# Altium integrated library Altium_WA-SMSI (rev22a) (2).IntLib: 179 symbols (part 1 of 3)
Pins are listed as number, name and electrical type; pins without a type are passive.

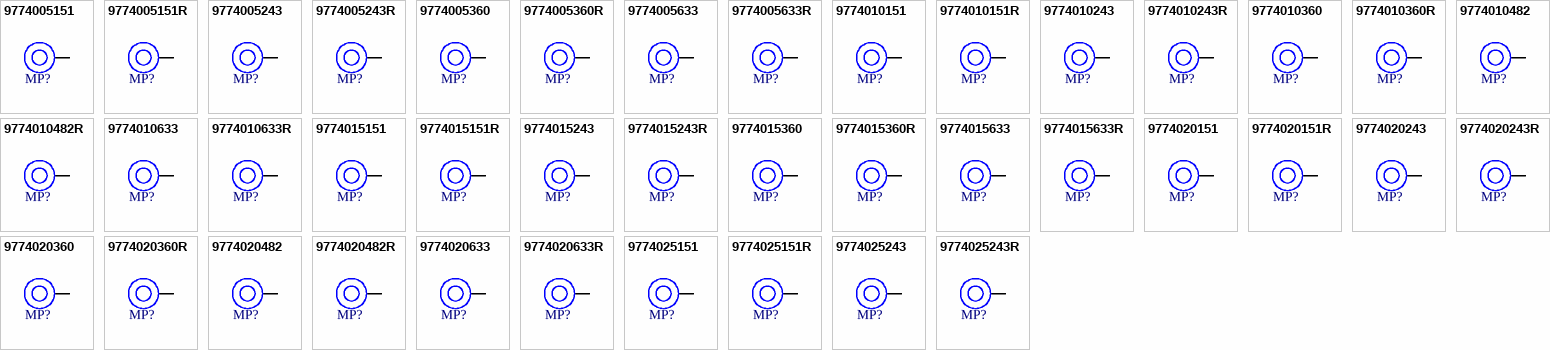
[diagram p0: symbols 9774005151 to 9774025243R]

## 9774005151
designator MP?, comment M2.5 x 0.5mm  (value not drawn)
WA-SMSI SMT Steel Spacer with internal Thread, OD 5.1mm, M2.5 x 0.5mm; Manufacturer Part Number: 9774005151; Manufacturer: Wurth Elektronik; Inside Diameter: 3.5mm; Surface: Tin; ComponentLink1Description: Website Link; ComponentLink1URL: https://www.we-online.com/redexpert/article/9774005151?ad; ComponentLink2Description: Datasheet Link; ComponentLink2URL: https://www.we-online.com/redexpert/spec/9774005151?ad; Category: SMT Spacers; Match Code: WA-SMSI; Mount: Surface Mount; Operating Temperature Max: 150°C; Operating Temperature Min: -55°C; Packaging: Bulk; Height: 0.5mm; Material: Steel; Outside Diameter: 5.1mm; Thread Size: M2.5
footprint 9774005151
pins: 1

## 9774005151R
designator MP?, comment M2.5 x 0.5mm  (value not drawn)
WA-SMSI SMT Steel Spacer with internal Thread, OD 5.1mm, M2.5 x 0.5mm; Manufacturer Part Number: 9774005151R; Manufacturer: Wurth Elektronik; Inside Diameter: 3.5mm; Surface: Tin; ComponentLink1Description: Website Link; ComponentLink1URL: https://www.we-online.com/redexpert/article/9774005151R?ad; ComponentLink2Description: Datasheet Link; ComponentLink2URL: https://www.we-online.com/redexpert/spec/9774005151R?ad; Category: SMT Spacers; Match Code: WA-SMSI; Mount: Surface Mount; Operating Temperature Max: 150°C; Operating Temperature Min: -55°C; Packaging: Tape and Reel; Height: 0.5mm; Material: Steel; Outside Diameter: 5.1mm; Thread Size: M2.5
footprint 9774005151
pins: 1

## 9774005243
designator MP?, comment M2 x 0.5mm  (value not drawn)
WA-SMSI SMT Steel Spacer with internal Thread, OD 4.35mm, M2 x 0.5mm; Manufacturer Part Number: 9774005243; Manufacturer: Wurth Elektronik; Inside Diameter: 2.8mm; Surface: Tin; ComponentLink1Description: Website Link; ComponentLink1URL: https://www.we-online.com/redexpert/article/9774005243?ad; ComponentLink2Description: Datasheet Link; ComponentLink2URL: https://www.we-online.com/redexpert/spec/9774005243?ad; Category: SMT Spacers; Match Code: WA-SMSI; Mount: Surface Mount; Operating Temperature Max: 150°C; Operating Temperature Min: -55°C; Packaging: Bulk; Height: 0.5mm; Material: Steel; Outside Diameter: 4.35mm; Thread Size: M2
footprint 9774005243
pins: 1

## 9774005243R
designator MP?, comment M2 x 0.5mm  (value not drawn)
WA-SMSI SMT Steel Spacer with internal Thread, OD 4.35mm, M2 x 0.5mm; Manufacturer Part Number: 9774005243R; Manufacturer: Wurth Elektronik; Inside Diameter: 2.8mm; Surface: Tin; ComponentLink1Description: Website Link; ComponentLink1URL: https://www.we-online.com/redexpert/article/9774005243R?ad; ComponentLink2Description: Datasheet Link; ComponentLink2URL: https://www.we-online.com/redexpert/spec/9774005243R?ad; Category: SMT Spacers; Match Code: WA-SMSI; Mount: Surface Mount; Operating Temperature Max: 150°C; Operating Temperature Min: -55°C; Packaging: Tape and Reel; Height: 0.5mm; Material: Steel; Outside Diameter: 4.35mm; Thread Size: M2
footprint 9774005243
pins: 1

## 9774005360
designator MP?, comment M3 x 0.5mm  (value not drawn)
WA-SMSI SMT Steel Spacer with internal Thread, OD 6mm, M3 x 0.5mm; Manufacturer Part Number: 9774005360; Manufacturer: Wurth Elektronik; Inside Diameter: 4.2mm; Surface: Tin; ComponentLink1Description: Website Link; ComponentLink1URL: https://www.we-online.com/redexpert/article/9774005360?ad; ComponentLink2Description: Datasheet Link; ComponentLink2URL: https://www.we-online.com/redexpert/spec/9774005360?ad; Category: SMT Spacers; Match Code: WA-SMSI; Mount: Surface Mount; Operating Temperature Max: 150°C; Operating Temperature Min: -55°C; Packaging: Bulk; Height: 0.5mm; Material: Steel; Outside Diameter: 6mm; Thread Size: M3
footprint 9774005360
pins: 1

## 9774005360R
designator MP?, comment M3 x 0.5mm  (value not drawn)
WA-SMSI SMT Steel Spacer with internal Thread, OD 6mm, M3 x 0.5mm; Manufacturer Part Number: 9774005360R; Manufacturer: Wurth Elektronik; Inside Diameter: 4.2mm; Surface: Tin; ComponentLink1Description: Website Link; ComponentLink1URL: https://www.we-online.com/redexpert/article/9774005360R?ad; ComponentLink2Description: Datasheet Link; ComponentLink2URL: https://www.we-online.com/redexpert/spec/9774005360R?ad; Category: SMT Spacers; Match Code: WA-SMSI; Mount: Surface Mount; Operating Temperature Max: 150°C; Operating Temperature Min: -55°C; Packaging: Tape and Reel; Height: 0.5mm; Material: Steel; Outside Diameter: 6mm; Thread Size: M3
footprint 9774005360
pins: 1

## 9774005633
designator MP?, comment M1.6 x 0.5mm  (value not drawn)
WA-SMSI SMT Steel Spacer with internal Thread, OD 3.3mm, M1.6 x 0.5mm; Manufacturer Part Number: 9774005633; Manufacturer: Wurth Elektronik; Inside Diameter: 1.9mm; Surface: Tin; ComponentLink1Description: Website Link; ComponentLink1URL: https://www.we-online.com/redexpert/article/9774005633?ad; ComponentLink2Description: Datasheet Link; ComponentLink2URL: https://www.we-online.com/redexpert/spec/9774005633?ad; Category: SMT Spacers; Match Code: WA-SMSI; Mount: Surface Mount; Operating Temperature Max: 150°C; Operating Temperature Min: -55°C; Packaging: Bulk; Height: 0.5mm; Material: Steel; Outside Diameter: 3.3mm; Thread Size: M1.6
footprint 9774005633
pins: 1

## 9774005633R
designator MP?, comment M1.6 x 0.5mm  (value not drawn)
WA-SMSI SMT Steel Spacer with internal Thread, OD 3.3mm, M1.6 x 0.5mm; Manufacturer Part Number: 9774005633R; Manufacturer: Wurth Elektronik; Inside Diameter: 1.9mm; Surface: Tin; ComponentLink1Description: Website Link; ComponentLink1URL: https://www.we-online.com/redexpert/article/9774005633R?ad; ComponentLink2Description: Datasheet Link; ComponentLink2URL: https://www.we-online.com/redexpert/spec/9774005633R?ad; Category: SMT Spacers; Match Code: WA-SMSI; Mount: Surface Mount; Operating Temperature Max: 150°C; Operating Temperature Min: -55°C; Packaging: Tape and Reel; Height: 0.5mm; Material: Steel; Outside Diameter: 3.3mm; Thread Size: M1.6
footprint 9774005633
pins: 1

## 9774010151
designator MP?, comment M2.5 x 1mm  (value not drawn)
WA-SMSI SMT Steel Spacer with internal Thread, OD 5.1mm, M2.5 x 1mm; Manufacturer Part Number: 9774010151; Manufacturer: Wurth Elektronik; Inside Diameter: 3.5mm; Surface: Tin; ComponentLink1Description: Website Link; ComponentLink1URL: https://www.we-online.com/redexpert/article/9774010151?ad; ComponentLink2Description: Datasheet Link; ComponentLink2URL: https://www.we-online.com/redexpert/spec/9774010151?ad; Category: SMT Spacers; Match Code: WA-SMSI; Mount: Surface Mount; Operating Temperature Max: 150°C; Operating Temperature Min: -55°C; Packaging: Bulk; Height: 1mm; Material: Steel; Outside Diameter: 5.1mm; Thread Size: M2.5
footprint 9774010151
pins: 1

## 9774010151R
designator MP?, comment M2.5 x 1mm  (value not drawn)
WA-SMSI SMT Steel Spacer with internal Thread, OD 5.1mm, M2.5 x 1mm; Manufacturer Part Number: 9774010151R; Manufacturer: Wurth Elektronik; Inside Diameter: 3.5mm; Surface: Tin; ComponentLink1Description: Website Link; ComponentLink1URL: https://www.we-online.com/redexpert/article/9774010151R?ad; ComponentLink2Description: Datasheet Link; ComponentLink2URL: https://www.we-online.com/redexpert/spec/9774010151R?ad; Category: SMT Spacers; Match Code: WA-SMSI; Mount: Surface Mount; Operating Temperature Max: 150°C; Operating Temperature Min: -55°C; Packaging: Tape and Reel; Height: 1mm; Material: Steel; Outside Diameter: 5.1mm; Thread Size: M2.5
footprint 9774010151
pins: 1

## 9774010243
designator MP?, comment M2 x 1mm  (value not drawn)
WA-SMSI SMT Steel Spacer with internal Thread, OD 4.35mm, M2 x 1mm; Manufacturer Part Number: 9774010243; Manufacturer: Wurth Elektronik; Inside Diameter: 2.8mm; Surface: Tin; ComponentLink1Description: Website Link; ComponentLink1URL: https://www.we-online.com/redexpert/article/9774010243?ad; ComponentLink2Description: Datasheet Link; ComponentLink2URL: https://www.we-online.com/redexpert/spec/9774010243?ad; Category: SMT Spacers; Match Code: WA-SMSI; Mount: Surface Mount; Operating Temperature Max: 150°C; Operating Temperature Min: -55°C; Packaging: Bulk; Height: 1mm; Material: Steel; Outside Diameter: 4.35mm; Thread Size: M2
footprint 9774010243
pins: 1

## 9774010243R
designator MP?, comment M2 x 1mm  (value not drawn)
WA-SMSI SMT Steel Spacer with internal Thread, OD 4.35mm, M2 x 1mm; Manufacturer Part Number: 9774010243R; Manufacturer: Wurth Elektronik; Inside Diameter: 2.8mm; Surface: Tin; ComponentLink1Description: Website Link; ComponentLink1URL: https://www.we-online.com/redexpert/article/9774010243R?ad; ComponentLink2Description: Datasheet Link; ComponentLink2URL: https://www.we-online.com/redexpert/spec/9774010243R?ad; Category: SMT Spacers; Match Code: WA-SMSI; Mount: Surface Mount; Operating Temperature Max: 150°C; Operating Temperature Min: -55°C; Packaging: Tape and Reel; Height: 1mm; Material: Steel; Outside Diameter: 4.35mm; Thread Size: M2
footprint 9774010243
pins: 1

## 9774010360
designator MP?, comment M3 x 1mm  (value not drawn)
WA-SMSI SMT Steel Spacer with internal Thread, OD 6mm, M3 x 1mm; Manufacturer Part Number: 9774010360; Manufacturer: Wurth Elektronik; Inside Diameter: 4.2mm; Surface: Tin; ComponentLink1Description: Website Link; ComponentLink1URL: https://www.we-online.com/redexpert/article/9774010360?ad; ComponentLink2Description: Datasheet Link; ComponentLink2URL: https://www.we-online.com/redexpert/spec/9774010360?ad; Category: SMT Spacers; Match Code: WA-SMSI; Mount: Surface Mount; Operating Temperature Max: 150°C; Operating Temperature Min: -55°C; Packaging: Bulk; Height: 1mm; Material: Steel; Outside Diameter: 6mm; Thread Size: M3
footprint 9774010360
pins: 1

## 9774010360R
designator MP?, comment M3 x 1mm  (value not drawn)
WA-SMSI SMT Steel Spacer with internal Thread, OD 6mm, M3 x 1mm; Manufacturer Part Number: 9774010360R; Manufacturer: Wurth Elektronik; Inside Diameter: 4.2mm; Surface: Tin; ComponentLink1Description: Website Link; ComponentLink1URL: https://www.we-online.com/redexpert/article/9774010360R?ad; ComponentLink2Description: Datasheet Link; ComponentLink2URL: https://www.we-online.com/redexpert/spec/9774010360R?ad; Category: SMT Spacers; Match Code: WA-SMSI; Mount: Surface Mount; Operating Temperature Max: 150°C; Operating Temperature Min: -55°C; Packaging: Tape and Reel; Height: 1mm; Material: Steel; Outside Diameter: 6mm; Thread Size: M3
footprint 9774010360
pins: 1

## 9774010482
designator MP?, comment M4 x 1mm  (value not drawn)
WA-SMSI SMT Steel Spacer with internal Thread, OD 8.2mm, M4 x 1mm; Manufacturer Part Number: 9774010482; Manufacturer: Wurth Elektronik; Inside Diameter: 5.2mm; Surface: Tin; ComponentLink1Description: Website Link; ComponentLink1URL: https://www.we-online.com/redexpert/article/9774010482?ad; ComponentLink2Description: Datasheet Link; ComponentLink2URL: https://www.we-online.com/redexpert/spec/9774010482?ad; Category: SMT Spacers; Match Code: WA-SMSI; Mount: Surface Mount; Operating Temperature Max: 150°C; Operating Temperature Min: -55°C; Packaging: Bulk; Height: 1mm; Material: Steel; Outside Diameter: 8.2mm; Thread Size: M4
footprint 9774010482
pins: 1

## 9774010482R
designator MP?, comment M4 x 1mm  (value not drawn)
WA-SMSI SMT Steel Spacer with internal Thread, OD 8.2mm, M4 x 1mm; Manufacturer Part Number: 9774010482R; Manufacturer: Wurth Elektronik; Inside Diameter: 5.2mm; Surface: Tin; ComponentLink1Description: Website Link; ComponentLink1URL: https://www.we-online.com/redexpert/article/9774010482R?ad; ComponentLink2Description: Datasheet Link; ComponentLink2URL: https://www.we-online.com/redexpert/spec/9774010482R?ad; Category: SMT Spacers; Match Code: WA-SMSI; Mount: Surface Mount; Operating Temperature Max: 150°C; Operating Temperature Min: -55°C; Packaging: Tape and Reel; Height: 1mm; Material: Steel; Outside Diameter: 8.2mm; Thread Size: M4
footprint 9774010482
pins: 1

## 9774010633
designator MP?, comment M1.6 x 1mm  (value not drawn)
WA-SMSI SMT Steel Spacer with internal Thread, OD 3.3mm, M1.6 x 1mm; Manufacturer Part Number: 9774010633; Manufacturer: Wurth Elektronik; Inside Diameter: 1.9mm; Surface: Tin; ComponentLink1Description: Website Link; ComponentLink1URL: https://www.we-online.com/redexpert/article/9774010633?ad; ComponentLink2Description: Datasheet Link; ComponentLink2URL: https://www.we-online.com/redexpert/spec/9774010633?ad; Category: SMT Spacers; Match Code: WA-SMSI; Mount: Surface Mount; Operating Temperature Max: 150°C; Operating Temperature Min: -55°C; Packaging: Bulk; Height: 1mm; Material: Steel; Outside Diameter: 3.3mm; Thread Size: M1.6
footprint 9774010633
pins: 1

## 9774010633R
designator MP?, comment M1.6 x 1mm  (value not drawn)
WA-SMSI SMT Steel Spacer with internal Thread, OD 3.3mm, M1.6 x 1mm; Manufacturer Part Number: 9774010633R; Manufacturer: Wurth Elektronik; Inside Diameter: 1.9mm; Surface: Tin; ComponentLink1Description: Website Link; ComponentLink1URL: https://www.we-online.com/redexpert/article/9774010633R?ad; ComponentLink2Description: Datasheet Link; ComponentLink2URL: https://www.we-online.com/redexpert/spec/9774010633R?ad; Category: SMT Spacers; Match Code: WA-SMSI; Mount: Surface Mount; Operating Temperature Max: 150°C; Operating Temperature Min: -55°C; Packaging: Tape and Reel; Height: 1mm; Material: Steel; Outside Diameter: 3.3mm; Thread Size: M1.6
footprint 9774010633
pins: 1

## 9774015151
designator MP?, comment M2.5 x 1.5mm  (value not drawn)
WA-SMSI SMT Steel Spacer with internal Thread, OD 5.1mm, M2.5 x 1.5mm; Manufacturer Part Number: 9774015151; Manufacturer: Wurth Elektronik; Inside Diameter: 3.5mm; Surface: Tin; ComponentLink1Description: Website Link; ComponentLink1URL: https://www.we-online.com/redexpert/article/9774015151?ad; ComponentLink2Description: Datasheet Link; ComponentLink2URL: https://www.we-online.com/redexpert/spec/9774015151?ad; Category: SMT Spacers; Match Code: WA-SMSI; Mount: Surface Mount; Operating Temperature Max: 150°C; Operating Temperature Min: -55°C; Packaging: Bulk; Height: 1.5mm; Material: Steel; Outside Diameter: 5.1mm; Thread Size: M2.5
footprint 9774015151
pins: 1

## 9774015151R
designator MP?, comment M2.5 x 1.5mm  (value not drawn)
WA-SMSI SMT Steel Spacer with internal Thread, OD 5.1mm, M2.5 x 1.5mm; Manufacturer Part Number: 9774015151R; Manufacturer: Wurth Elektronik; Inside Diameter: 3.5mm; Surface: Tin; ComponentLink1Description: Website Link; ComponentLink1URL: https://www.we-online.com/redexpert/article/9774015151R?ad; ComponentLink2Description: Datasheet Link; ComponentLink2URL: https://www.we-online.com/redexpert/spec/9774015151R?ad; Category: SMT Spacers; Match Code: WA-SMSI; Mount: Surface Mount; Operating Temperature Max: 150°C; Operating Temperature Min: -55°C; Packaging: Tape and Reel; Height: 1.5mm; Material: Steel; Outside Diameter: 5.1mm; Thread Size: M2.5
footprint 9774015151
pins: 1

## 9774015243
designator MP?, comment M2 x 1.5mm  (value not drawn)
WA-SMSI SMT Steel Spacer with internal Thread, OD 4.35mm, M2 x 1.5mm; Manufacturer Part Number: 9774015243; Manufacturer: Wurth Elektronik; Inside Diameter: 2.8mm; Surface: Tin; ComponentLink1Description: Website Link; ComponentLink1URL: https://www.we-online.com/redexpert/article/9774015243?ad; ComponentLink2Description: Datasheet Link; ComponentLink2URL: https://www.we-online.com/redexpert/spec/9774015243?ad; Category: SMT Spacers; Match Code: WA-SMSI; Mount: Surface Mount; Operating Temperature Max: 150°C; Operating Temperature Min: -55°C; Packaging: Bulk; Height: 1.5mm; Material: Steel; Outside Diameter: 4.35mm; Thread Size: M2
footprint 9774015243
pins: 1

## 9774015243R
designator MP?, comment M2 x 1.5mm  (value not drawn)
WA-SMSI SMT Steel Spacer with internal Thread, OD 4.35mm, M2 x 1.5mm; Manufacturer Part Number: 9774015243R; Manufacturer: Wurth Elektronik; Inside Diameter: 2.8mm; Surface: Tin; ComponentLink1Description: Website Link; ComponentLink1URL: https://www.we-online.com/redexpert/article/9774015243R?ad; ComponentLink2Description: Datasheet Link; ComponentLink2URL: https://www.we-online.com/redexpert/spec/9774015243R?ad; Category: SMT Spacers; Match Code: WA-SMSI; Mount: Surface Mount; Operating Temperature Max: 150°C; Operating Temperature Min: -55°C; Packaging: Tape and Reel; Height: 1.5mm; Material: Steel; Outside Diameter: 4.35mm; Thread Size: M2
footprint 9774015243
pins: 1

## 9774015360
designator MP?, comment M3 x 1.5mm  (value not drawn)
WA-SMSI SMT Steel Spacer with internal Thread, OD 6mm, M3 x 1.5mm; Manufacturer Part Number: 9774015360; Manufacturer: Wurth Elektronik; Inside Diameter: 4.2mm; Surface: Tin; ComponentLink1Description: Website Link; ComponentLink1URL: https://www.we-online.com/redexpert/article/9774015360?ad; ComponentLink2Description: Datasheet Link; ComponentLink2URL: https://www.we-online.com/redexpert/spec/9774015360?ad; Category: SMT Spacers; Match Code: WA-SMSI; Mount: Surface Mount; Operating Temperature Max: 150°C; Operating Temperature Min: -55°C; Packaging: Bulk; Height: 1.5mm; Material: Steel; Outside Diameter: 6mm; Thread Size: M3
footprint 9774015360
pins: 1

## 9774015360R
designator MP?, comment M3 x 1.5mm  (value not drawn)
WA-SMSI SMT Steel Spacer with internal Thread, OD 6mm, M3 x 1.5mm; Manufacturer Part Number: 9774015360R; Manufacturer: Wurth Elektronik; Inside Diameter: 4.2mm; Surface: Tin; ComponentLink1Description: Website Link; ComponentLink1URL: https://www.we-online.com/redexpert/article/9774015360R?ad; ComponentLink2Description: Datasheet Link; ComponentLink2URL: https://www.we-online.com/redexpert/spec/9774015360R?ad; Category: SMT Spacers; Match Code: WA-SMSI; Mount: Surface Mount; Operating Temperature Max: 150°C; Operating Temperature Min: -55°C; Packaging: Tape and Reel; Height: 1.5mm; Material: Steel; Outside Diameter: 6mm; Thread Size: M3
footprint 9774015360
pins: 1

## 9774015633
designator MP?, comment M1.6 x 1.5mm  (value not drawn)
WA-SMSI SMT Steel Spacer with internal Thread, OD 3.3mm, M1.6 x 1.5mm; Manufacturer Part Number: 9774015633; Manufacturer: Wurth Elektronik; Inside Diameter: 1.9mm; Surface: Tin; ComponentLink1Description: Website Link; ComponentLink1URL: https://www.we-online.com/redexpert/article/9774015633?ad; ComponentLink2Description: Datasheet Link; ComponentLink2URL: https://www.we-online.com/redexpert/spec/9774015633?ad; Category: SMT Spacers; Match Code: WA-SMSI; Mount: Surface Mount; Operating Temperature Max: 150°C; Operating Temperature Min: -55°C; Packaging: Bulk; Height: 1.5mm; Material: Steel; Outside Diameter: 3.3mm; Thread Size: M1.6
footprint 9774015633
pins: 1

## 9774015633R
designator MP?, comment M1.6 x 1.5mm  (value not drawn)
WA-SMSI SMT Steel Spacer with internal Thread, OD 3.3mm, M1.6 x 1.5mm; Manufacturer Part Number: 9774015633R; Manufacturer: Wurth Elektronik; Inside Diameter: 1.9mm; Surface: Tin; ComponentLink1Description: Website Link; ComponentLink1URL: https://www.we-online.com/redexpert/article/9774015633R?ad; ComponentLink2Description: Datasheet Link; ComponentLink2URL: https://www.we-online.com/redexpert/spec/9774015633R?ad; Category: SMT Spacers; Match Code: WA-SMSI; Mount: Surface Mount; Operating Temperature Max: 150°C; Operating Temperature Min: -55°C; Packaging: Tape and Reel; Height: 1.5mm; Material: Steel; Outside Diameter: 3.3mm; Thread Size: M1.6
footprint 9774015633
pins: 1

## 9774020151
designator MP?, comment M2.5 x 2mm  (value not drawn)
WA-SMSI SMT Steel Spacer with internal Thread, OD 5.1mm, M2.5 x 2mm; Manufacturer Part Number: 9774020151; Manufacturer: Wurth Elektronik; Inside Diameter: 3.5mm; Surface: Tin; ComponentLink1Description: Website Link; ComponentLink1URL: https://www.we-online.com/redexpert/article/9774020151?ad; ComponentLink2Description: Datasheet Link; ComponentLink2URL: https://www.we-online.com/redexpert/spec/9774020151?ad; Category: SMT Spacers; Match Code: WA-SMSI; Mount: Surface Mount; Operating Temperature Max: 150°C; Operating Temperature Min: -55°C; Packaging: Bulk; Height: 2mm; Material: Steel; Outside Diameter: 5.1mm; Thread Size: M2.5
footprint 9774020151
pins: 1

## 9774020151R
designator MP?, comment M2.5 x 2mm  (value not drawn)
WA-SMSI SMT Steel Spacer with internal Thread, OD 5.1mm, M2.5 x 2mm; Manufacturer Part Number: 9774020151R; Manufacturer: Wurth Elektronik; Inside Diameter: 3.5mm; Surface: Tin; ComponentLink1Description: Website Link; ComponentLink1URL: https://www.we-online.com/redexpert/article/9774020151R?ad; ComponentLink2Description: Datasheet Link; ComponentLink2URL: https://www.we-online.com/redexpert/spec/9774020151R?ad; Category: SMT Spacers; Match Code: WA-SMSI; Mount: Surface Mount; Operating Temperature Max: 150°C; Operating Temperature Min: -55°C; Packaging: Tape and Reel; Height: 2mm; Material: Steel; Outside Diameter: 5.1mm; Thread Size: M2.5
footprint 9774020151
pins: 1

## 9774020243
designator MP?, comment M2 x 2mm  (value not drawn)
WA-SMSI SMT Steel Spacer with internal Thread, OD 4.35mm, M2 x 2mm; Manufacturer Part Number: 9774020243; Manufacturer: Wurth Elektronik; Inside Diameter: 2.8mm; Surface: Tin; ComponentLink1Description: Website Link; ComponentLink1URL: https://www.we-online.com/redexpert/article/9774020243?ad; ComponentLink2Description: Datasheet Link; ComponentLink2URL: https://www.we-online.com/redexpert/spec/9774020243?ad; Category: SMT Spacers; Match Code: WA-SMSI; Mount: Surface Mount; Operating Temperature Max: 150°C; Operating Temperature Min: -55°C; Packaging: Bulk; Height: 2mm; Material: Steel; Outside Diameter: 4.35mm; Thread Size: M2
footprint 9774020243
pins: 1

## 9774020243R
designator MP?, comment M2 x 2mm  (value not drawn)
WA-SMSI SMT Steel Spacer with internal Thread, OD 4.35mm, M2 x 2mm; Manufacturer Part Number: 9774020243R; Manufacturer: Wurth Elektronik; Inside Diameter: 2.8mm; Surface: Tin; ComponentLink1Description: Website Link; ComponentLink1URL: https://www.we-online.com/redexpert/article/9774020243R?ad; ComponentLink2Description: Datasheet Link; ComponentLink2URL: https://www.we-online.com/redexpert/spec/9774020243R?ad; Category: SMT Spacers; Match Code: WA-SMSI; Mount: Surface Mount; Operating Temperature Max: 150°C; Operating Temperature Min: -55°C; Packaging: Tape and Reel; Height: 2mm; Material: Steel; Outside Diameter: 4.35mm; Thread Size: M2
footprint 9774020243
pins: 1

## 9774020360
designator MP?, comment M3 x 2mm  (value not drawn)
WA-SMSI SMT Steel Spacer with internal Thread, OD 6mm, M3 x 2mm; Manufacturer Part Number: 9774020360; Manufacturer: Wurth Elektronik; Inside Diameter: 4.2mm; Surface: Tin; ComponentLink1Description: Website Link; ComponentLink1URL: https://www.we-online.com/redexpert/article/9774020360?ad; ComponentLink2Description: Datasheet Link; ComponentLink2URL: https://www.we-online.com/redexpert/spec/9774020360?ad; Category: SMT Spacers; Match Code: WA-SMSI; Mount: Surface Mount; Operating Temperature Max: 150°C; Operating Temperature Min: -55°C; Packaging: Bulk; Height: 2mm; Material: Steel; Outside Diameter: 6mm; Thread Size: M3
footprint 9774020360
pins: 1

## 9774020360R
designator MP?, comment M3 x 2mm  (value not drawn)
WA-SMSI SMT Steel Spacer with internal Thread, OD 6mm, M3 x 2mm; Manufacturer Part Number: 9774020360R; Manufacturer: Wurth Elektronik; Inside Diameter: 4.2mm; Surface: Tin; ComponentLink1Description: Website Link; ComponentLink1URL: https://www.we-online.com/redexpert/article/9774020360R?ad; ComponentLink2Description: Datasheet Link; ComponentLink2URL: https://www.we-online.com/redexpert/spec/9774020360R?ad; Category: SMT Spacers; Match Code: WA-SMSI; Mount: Surface Mount; Operating Temperature Max: 150°C; Operating Temperature Min: -55°C; Packaging: Tape and Reel; Height: 2mm; Material: Steel; Outside Diameter: 6mm; Thread Size: M3
footprint 9774020360
pins: 1

## 9774020482
designator MP?, comment M4 x 2mm  (value not drawn)
WA-SMSI SMT Steel Spacer with internal Thread, OD 8.2mm, M4 x 2mm; Manufacturer Part Number: 9774020482; Manufacturer: Wurth Elektronik; Inside Diameter: 5.2mm; Surface: Tin; ComponentLink1Description: Website Link; ComponentLink1URL: https://www.we-online.com/redexpert/article/9774020482?ad; ComponentLink2Description: Datasheet Link; ComponentLink2URL: https://www.we-online.com/redexpert/spec/9774020482?ad; Category: SMT Spacers; Match Code: WA-SMSI; Mount: Surface Mount; Operating Temperature Max: 150°C; Operating Temperature Min: -55°C; Packaging: Bulk; Height: 2mm; Material: Steel; Outside Diameter: 8.2mm; Thread Size: M4
footprint 9774020482
pins: 1

## 9774020482R
designator MP?, comment M4 x 2mm  (value not drawn)
WA-SMSI SMT Steel Spacer with internal Thread, OD 8.2mm, M4 x 2mm; Manufacturer Part Number: 9774020482R; Manufacturer: Wurth Elektronik; Inside Diameter: 5.2mm; Surface: Tin; ComponentLink1Description: Website Link; ComponentLink1URL: https://www.we-online.com/redexpert/article/9774020482R?ad; ComponentLink2Description: Datasheet Link; ComponentLink2URL: https://www.we-online.com/redexpert/spec/9774020482R?ad; Category: SMT Spacers; Match Code: WA-SMSI; Mount: Surface Mount; Operating Temperature Max: 150°C; Operating Temperature Min: -55°C; Packaging: Tape and Reel; Height: 2mm; Material: Steel; Outside Diameter: 8.2mm; Thread Size: M4
footprint 9774020482
pins: 1

## 9774020633
designator MP?, comment M1.6 x 2mm  (value not drawn)
WA-SMSI SMT Steel Spacer with internal Thread, OD 3.3mm, M1.6 x 2mm; Manufacturer Part Number: 9774020633; Manufacturer: Wurth Elektronik; Inside Diameter: 1.9mm; Surface: Tin; ComponentLink1Description: Website Link; ComponentLink1URL: https://www.we-online.com/redexpert/article/9774020633?ad; ComponentLink2Description: Datasheet Link; ComponentLink2URL: https://www.we-online.com/redexpert/spec/9774020633?ad; Category: SMT Spacers; Match Code: WA-SMSI; Mount: Surface Mount; Operating Temperature Max: 150°C; Operating Temperature Min: -55°C; Packaging: Bulk; Height: 2mm; Material: Steel; Outside Diameter: 3.3mm; Thread Size: M1.6
footprint 9774020633
pins: 1

## 9774020633R
designator MP?, comment M1.6 x 2mm  (value not drawn)
WA-SMSI SMT Steel Spacer with internal Thread, OD 3.3mm, M1.6 x 2mm; Manufacturer Part Number: 9774020633R; Manufacturer: Wurth Elektronik; Inside Diameter: 1.9mm; Surface: Tin; ComponentLink1Description: Website Link; ComponentLink1URL: https://www.we-online.com/redexpert/article/9774020633R?ad; ComponentLink2Description: Datasheet Link; ComponentLink2URL: https://www.we-online.com/redexpert/spec/9774020633R?ad; Category: SMT Spacers; Match Code: WA-SMSI; Mount: Surface Mount; Operating Temperature Max: 150°C; Operating Temperature Min: -55°C; Packaging: Tape and Reel; Height: 2mm; Material: Steel; Outside Diameter: 3.3mm; Thread Size: M1.6
footprint 9774020633
pins: 1

## 9774025151
designator MP?, comment M2.5 x 2.5mm  (value not drawn)
WA-SMSI SMT Steel Spacer with internal Thread, OD 5.1mm, M2.5 x 2.5mm; Manufacturer Part Number: 9774025151; Manufacturer: Wurth Elektronik; Inside Diameter: 3.5mm; Surface: Tin; ComponentLink1Description: Website Link; ComponentLink1URL: https://www.we-online.com/redexpert/article/9774025151?ad; ComponentLink2Description: Datasheet Link; ComponentLink2URL: https://www.we-online.com/redexpert/spec/9774025151?ad; Category: SMT Spacers; Match Code: WA-SMSI; Mount: Surface Mount; Operating Temperature Max: 150°C; Operating Temperature Min: -55°C; Packaging: Bulk; Height: 2.5mm; Material: Steel; Outside Diameter: 5.1mm; Thread Size: M2.5
footprint 9774025151
pins: 1

## 9774025151R
designator MP?, comment M2.5 x 2.5mm  (value not drawn)
WA-SMSI SMT Steel Spacer with internal Thread, OD 5.1mm, M2.5 x 2.5mm; Manufacturer Part Number: 9774025151R; Manufacturer: Wurth Elektronik; Inside Diameter: 3.5mm; Surface: Tin; ComponentLink1Description: Website Link; ComponentLink1URL: https://www.we-online.com/redexpert/article/9774025151R?ad; ComponentLink2Description: Datasheet Link; ComponentLink2URL: https://www.we-online.com/redexpert/spec/9774025151R?ad; Category: SMT Spacers; Match Code: WA-SMSI; Mount: Surface Mount; Operating Temperature Max: 150°C; Operating Temperature Min: -55°C; Packaging: Tape and Reel; Height: 2.5mm; Material: Steel; Outside Diameter: 5.1mm; Thread Size: M2.5
footprint 9774025151
pins: 1

## 9774025243
designator MP?, comment M2 x 2.5mm  (value not drawn)
WA-SMSI SMT Steel Spacer with internal Thread, OD 4.35mm, M2 x 2.5mm; Manufacturer Part Number: 9774025243; Manufacturer: Wurth Elektronik; Inside Diameter: 2.8mm; Surface: Tin; ComponentLink1Description: Website Link; ComponentLink1URL: https://www.we-online.com/redexpert/article/9774025243?ad; ComponentLink2Description: Datasheet Link; ComponentLink2URL: https://www.we-online.com/redexpert/spec/9774025243?ad; Category: SMT Spacers; Match Code: WA-SMSI; Mount: Surface Mount; Operating Temperature Max: 150°C; Operating Temperature Min: -55°C; Packaging: Bulk; Height: 2.5mm; Material: Steel; Outside Diameter: 4.35mm; Thread Size: M2
footprint 9774025243
pins: 1

## 9774025243R
designator MP?, comment M2 x 2.5mm  (value not drawn)
WA-SMSI SMT Steel Spacer with internal Thread, OD 4.35mm, M2 x 2.5mm; Manufacturer Part Number: 9774025243R; Manufacturer: Wurth Elektronik; Inside Diameter: 2.8mm; Surface: Tin; ComponentLink1Description: Website Link; ComponentLink1URL: https://www.we-online.com/redexpert/article/9774025243R?ad; ComponentLink2Description: Datasheet Link; ComponentLink2URL: https://www.we-online.com/redexpert/spec/9774025243R?ad; Category: SMT Spacers; Match Code: WA-SMSI; Mount: Surface Mount; Operating Temperature Max: 150°C; Operating Temperature Min: -55°C; Packaging: Tape and Reel; Height: 2.5mm; Material: Steel; Outside Diameter: 4.35mm; Thread Size: M2
footprint 9774025243
pins: 1

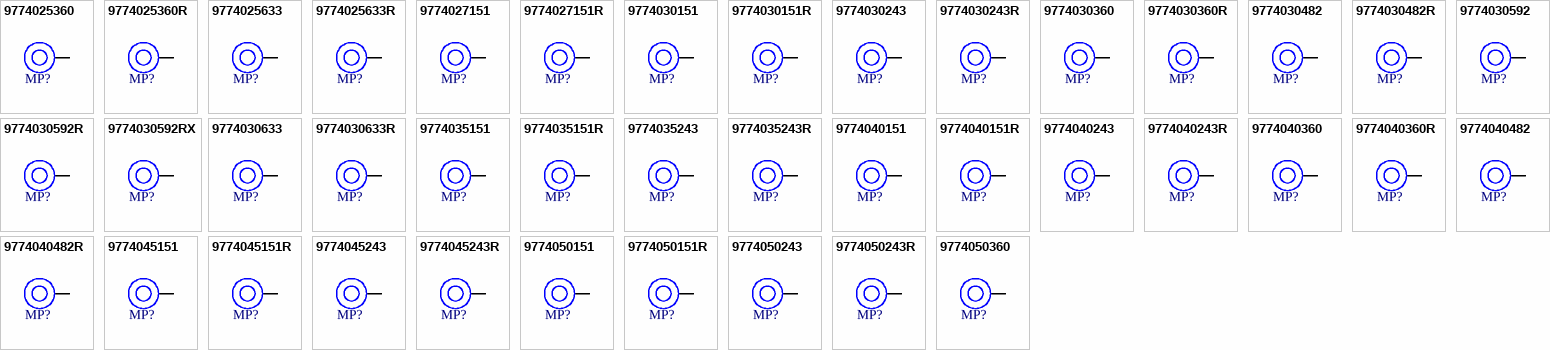
[diagram p1: symbols 9774025360 to 9774050360]

## 9774025360
designator MP?, comment M3 x 2.5mm  (value not drawn)
WA-SMSI SMT Steel Spacer with internal Thread, OD 6mm, M3 x 2.5mm; Manufacturer Part Number: 9774025360; Manufacturer: Wurth Elektronik; Inside Diameter: 4.2mm; Surface: Tin; ComponentLink1Description: Website Link; ComponentLink1URL: https://www.we-online.com/redexpert/article/9774025360?ad; ComponentLink2Description: Datasheet Link; ComponentLink2URL: https://www.we-online.com/redexpert/spec/9774025360?ad; Category: SMT Spacers; Match Code: WA-SMSI; Mount: Surface Mount; Operating Temperature Max: 150°C; Operating Temperature Min: -55°C; Packaging: Bulk; Height: 2.5mm; Material: Steel; Outside Diameter: 6mm; Thread Size: M3
footprint 9774025360
pins: 1

## 9774025360R
designator MP?, comment M3 x 2.5mm  (value not drawn)
WA-SMSI SMT Steel Spacer with internal Thread, OD 6mm, M3 x 2.5mm; Manufacturer Part Number: 9774025360R; Manufacturer: Wurth Elektronik; Inside Diameter: 4.2mm; Surface: Tin; ComponentLink1Description: Website Link; ComponentLink1URL: https://www.we-online.com/redexpert/article/9774025360R?ad; ComponentLink2Description: Datasheet Link; ComponentLink2URL: https://www.we-online.com/redexpert/spec/9774025360R?ad; Category: SMT Spacers; Match Code: WA-SMSI; Mount: Surface Mount; Operating Temperature Max: 150°C; Operating Temperature Min: -55°C; Packaging: Tape and Reel; Height: 2.5mm; Material: Steel; Outside Diameter: 6mm; Thread Size: M3
footprint 9774025360
pins: 1

## 9774025633
designator MP?, comment M1.6 x 2.5mm  (value not drawn)
WA-SMSI SMT Steel Spacer with internal Thread, OD 3.3mm, M1.6 x 2.5mm; Manufacturer Part Number: 9774025633; Manufacturer: Wurth Elektronik; Inside Diameter: 1.9mm; Surface: Tin; ComponentLink1Description: Website Link; ComponentLink1URL: https://www.we-online.com/redexpert/article/9774025633?ad; ComponentLink2Description: Datasheet Link; ComponentLink2URL: https://www.we-online.com/redexpert/spec/9774025633?ad; Category: SMT Spacers; Match Code: WA-SMSI; Mount: Surface Mount; Operating Temperature Max: 150°C; Operating Temperature Min: -55°C; Packaging: Bulk; Height: 2.5mm; Material: Steel; Outside Diameter: 3.3mm; Thread Size: M1.6
footprint 9774025633
pins: 1

## 9774025633R
designator MP?, comment M1.6 x 2.5mm  (value not drawn)
WA-SMSI SMT Steel Spacer with internal Thread, OD 3.3mm, M1.6 x 2.5mm; Manufacturer Part Number: 9774025633R; Manufacturer: Wurth Elektronik; Inside Diameter: 1.9mm; Surface: Tin; ComponentLink1Description: Website Link; ComponentLink1URL: https://www.we-online.com/redexpert/article/9774025633R?ad; ComponentLink2Description: Datasheet Link; ComponentLink2URL: https://www.we-online.com/redexpert/spec/9774025633R?ad; Category: SMT Spacers; Match Code: WA-SMSI; Mount: Surface Mount; Operating Temperature Max: 150°C; Operating Temperature Min: -55°C; Packaging: Tape and Reel; Height: 2.5mm; Material: Steel; Outside Diameter: 3.3mm; Thread Size: M1.6
footprint 9774025633
pins: 1

## 9774027151
designator MP?, comment M2.5 x 2.7mm  (value not drawn)
WA-SMSI SMT Steel Spacer with internal Thread, OD 5.1mm, M2.5 x 2.7mm; Manufacturer Part Number: 9774027151; Manufacturer: Wurth Elektronik; Inside Diameter: 3.5mm; Surface: Tin; ComponentLink1Description: Website Link; ComponentLink1URL: https://www.we-online.com/redexpert/article/9774027151?ad; ComponentLink2Description: Datasheet Link; ComponentLink2URL: https://www.we-online.com/redexpert/spec/9774027151?ad; Category: SMT Spacers; Match Code: WA-SMSI; Mount: Surface Mount; Operating Temperature Max: 150°C; Operating Temperature Min: -55°C; Packaging: Bulk; Height: 2.7mm; Material: Steel; Outside Diameter: 5.1mm; Thread Size: M2.5
footprint 9774027151
pins: 1

## 9774027151R
designator MP?, comment M2.5 x 2.7mm  (value not drawn)
WA-SMSI SMT Steel Spacer with internal Thread, OD 5.1mm, M2.5 x 2.7mm; Manufacturer Part Number: 9774027151R; Manufacturer: Wurth Elektronik; Inside Diameter: 3.5mm; Surface: Tin; ComponentLink1Description: Website Link; ComponentLink1URL: https://www.we-online.com/redexpert/article/9774027151R?ad; ComponentLink2Description: Datasheet Link; ComponentLink2URL: https://www.we-online.com/redexpert/spec/9774027151R?ad; Category: SMT Spacers; Match Code: WA-SMSI; Mount: Surface Mount; Operating Temperature Max: 150°C; Operating Temperature Min: -55°C; Packaging: Tape and Reel; Height: 2.7mm; Material: Steel; Outside Diameter: 5.1mm; Thread Size: M2.5
footprint 9774027151
pins: 1

## 9774030151
designator MP?, comment M2.5 x 3mm  (value not drawn)
WA-SMSI SMT Steel Spacer with internal Thread, OD 5.1mm, M2.5 x 3mm; Manufacturer Part Number: 9774030151; Manufacturer: Wurth Elektronik; Inside Diameter: 3.5mm; Surface: Tin; ComponentLink1Description: Website Link; ComponentLink1URL: https://www.we-online.com/redexpert/article/9774030151?ad; ComponentLink2Description: Datasheet Link; ComponentLink2URL: https://www.we-online.com/redexpert/spec/9774030151?ad; Category: SMT Spacers; Match Code: WA-SMSI; Mount: Surface Mount; Operating Temperature Max: 150°C; Operating Temperature Min: -55°C; Packaging: Bulk; Height: 3mm; Material: Steel; Outside Diameter: 5.1mm; Thread Size: M2.5
footprint 9774030151
pins: 1

## 9774030151R
designator MP?, comment M2.5 x 3mm  (value not drawn)
WA-SMSI SMT Steel Spacer with internal Thread, OD 5.1mm, M2.5 x 3mm; Manufacturer Part Number: 9774030151R; Manufacturer: Wurth Elektronik; Inside Diameter: 3.5mm; Surface: Tin; ComponentLink1Description: Website Link; ComponentLink1URL: https://www.we-online.com/redexpert/article/9774030151R?ad; ComponentLink2Description: Datasheet Link; ComponentLink2URL: https://www.we-online.com/redexpert/spec/9774030151R?ad; Category: SMT Spacers; Match Code: WA-SMSI; Mount: Surface Mount; Operating Temperature Max: 150°C; Operating Temperature Min: -55°C; Packaging: Tape and Reel; Height: 3mm; Material: Steel; Outside Diameter: 5.1mm; Thread Size: M2.5
footprint 9774030151
pins: 1

## 9774030243
designator MP?, comment M2 x 3mm  (value not drawn)
WA-SMSI SMT Steel Spacer with internal Thread, OD 4.35mm, M2 x 3mm; Manufacturer Part Number: 9774030243; Manufacturer: Wurth Elektronik; Inside Diameter: 2.8mm; Surface: Tin; ComponentLink1Description: Website Link; ComponentLink1URL: https://www.we-online.com/redexpert/article/9774030243?ad; ComponentLink2Description: Datasheet Link; ComponentLink2URL: https://www.we-online.com/redexpert/spec/9774030243?ad; Category: SMT Spacers; Match Code: WA-SMSI; Mount: Surface Mount; Operating Temperature Max: 150°C; Operating Temperature Min: -55°C; Packaging: Bulk; Height: 3mm; Material: Steel; Outside Diameter: 4.35mm; Thread Size: M2
footprint 9774030243
pins: 1

## 9774030243R
designator MP?, comment M2 x 3mm  (value not drawn)
WA-SMSI SMT Steel Spacer with internal Thread, OD 4.35mm, M2 x 3mm; Manufacturer Part Number: 9774030243R; Manufacturer: Wurth Elektronik; Inside Diameter: 2.8mm; Surface: Tin; ComponentLink1Description: Website Link; ComponentLink1URL: https://www.we-online.com/redexpert/article/9774030243R?ad; ComponentLink2Description: Datasheet Link; ComponentLink2URL: https://www.we-online.com/redexpert/spec/9774030243R?ad; Category: SMT Spacers; Match Code: WA-SMSI; Mount: Surface Mount; Operating Temperature Max: 150°C; Operating Temperature Min: -55°C; Packaging: Tape and Reel; Height: 3mm; Material: Steel; Outside Diameter: 4.35mm; Thread Size: M2
footprint 9774030243
pins: 1

## 9774030360
designator MP?, comment M3 x 3mm  (value not drawn)
WA-SMSI SMT Steel Spacer with internal Thread, OD 6mm, M3 x 3mm; Manufacturer Part Number: 9774030360; Manufacturer: Wurth Elektronik; Inside Diameter: 4.2mm; Surface: Tin; ComponentLink1Description: Website Link; ComponentLink1URL: https://www.we-online.com/redexpert/article/9774030360?ad; ComponentLink2Description: Datasheet Link; ComponentLink2URL: https://www.we-online.com/redexpert/spec/9774030360?ad; Category: SMT Spacers; Match Code: WA-SMSI; Mount: Surface Mount; Operating Temperature Max: 150°C; Operating Temperature Min: -55°C; Packaging: Bulk; Height: 3mm; Material: Steel; Outside Diameter: 6mm; Thread Size: M3
footprint 9774030360
pins: 1

## 9774030360R
designator MP?, comment M3 x 3mm  (value not drawn)
WA-SMSI SMT Steel Spacer with internal Thread, OD 6mm, M3 x 3mm; Manufacturer Part Number: 9774030360R; Manufacturer: Wurth Elektronik; Inside Diameter: 4.2mm; Surface: Tin; ComponentLink1Description: Website Link; ComponentLink1URL: https://www.we-online.com/redexpert/article/9774030360R?ad; ComponentLink2Description: Datasheet Link; ComponentLink2URL: https://www.we-online.com/redexpert/spec/9774030360R?ad; Category: SMT Spacers; Match Code: WA-SMSI; Mount: Surface Mount; Operating Temperature Max: 150°C; Operating Temperature Min: -55°C; Packaging: Tape and Reel; Height: 3mm; Material: Steel; Outside Diameter: 6mm; Thread Size: M3
footprint 9774030360
pins: 1

## 9774030482
designator MP?, comment M4 x 3mm  (value not drawn)
WA-SMSI SMT Steel Spacer with internal Thread, OD 8.2mm, M4 x 3mm; Manufacturer Part Number: 9774030482; Manufacturer: Wurth Elektronik; Inside Diameter: 5.2mm; Surface: Tin; ComponentLink1Description: Website Link; ComponentLink1URL: https://www.we-online.com/redexpert/article/9774030482?ad; ComponentLink2Description: Datasheet Link; ComponentLink2URL: https://www.we-online.com/redexpert/spec/9774030482?ad; Category: SMT Spacers; Match Code: WA-SMSI; Mount: Surface Mount; Operating Temperature Max: 150°C; Operating Temperature Min: -55°C; Packaging: Bulk; Height: 3mm; Material: Steel; Outside Diameter: 8.2mm; Thread Size: M4
footprint 9774030482
pins: 1

## 9774030482R
designator MP?, comment M4 x 3mm  (value not drawn)
WA-SMSI SMT Steel Spacer with internal Thread, OD 8.2mm, M4 x 3mm; Manufacturer Part Number: 9774030482R; Manufacturer: Wurth Elektronik; Inside Diameter: 5.2mm; Surface: Tin; ComponentLink1Description: Website Link; ComponentLink1URL: https://www.we-online.com/redexpert/article/9774030482R?ad; ComponentLink2Description: Datasheet Link; ComponentLink2URL: https://www.we-online.com/redexpert/spec/9774030482R?ad; Category: SMT Spacers; Match Code: WA-SMSI; Mount: Surface Mount; Operating Temperature Max: 150°C; Operating Temperature Min: -55°C; Packaging: Tape and Reel; Height: 3mm; Material: Steel; Outside Diameter: 8.2mm; Thread Size: M4
footprint 9774030482
pins: 1

## 9774030592
designator MP?, comment M5 x 3mm  (value not drawn)
WA-SMSI SMT Steel Spacer with internal Thread, OD 9.2mm, M5 x 3mm; Manufacturer Part Number: 9774030592; Manufacturer: Wurth Elektronik; Inside Diameter: 5.8mm; Surface: Tin; ComponentLink1Description: Website Link; ComponentLink1URL: https://www.we-online.com/redexpert/article/9774030592?ad; ComponentLink2Description: Datasheet Link; ComponentLink2URL: https://www.we-online.com/redexpert/spec/9774030592?ad; Category: SMT Spacers; Match Code: WA-SMSI; Mount: Surface Mount; Operating Temperature Max: 150°C; Operating Temperature Min: -55°C; Packaging: Bulk; Height: 3mm; Material: Steel; Outside Diameter: 9.2mm; Thread Size: M5
footprint 9774030592
pins: 1

## 9774030592R
designator MP?, comment M5 x 3mm  (value not drawn)
WA-SMSI SMT Steel Spacer with internal Thread, OD 9.2mm, M5 x 3mm; Manufacturer Part Number: 9774030592R; Manufacturer: Wurth Elektronik; Inside Diameter: 5.8mm; Surface: Tin; ComponentLink1Description: Website Link; ComponentLink1URL: https://www.we-online.com/redexpert/article/9774030592R?ad; ComponentLink2Description: Datasheet Link; ComponentLink2URL: https://www.we-online.com/redexpert/spec/9774030592R?ad; Category: SMT Spacers; Match Code: WA-SMSI; Mount: Surface Mount; Operating Temperature Max: 150°C; Operating Temperature Min: -55°C; Packaging: Tape and Reel; Height: 3mm; Material: Steel; Outside Diameter: 9.2mm; Thread Size: M5
footprint 9774030592
pins: 1

## 9774030592RX
designator MP?, comment M5 x 3mm  (value not drawn)
WA-SMSI SMT Steel Spacer with internal Thread, OD 9.2mm, M5 x 3mm; Manufacturer Part Number: 9774030592RX; Manufacturer: Wurth Elektronik; Inside Diameter: 5.8mm; Surface: Tin; ComponentLink1Description: Website Link; ComponentLink1URL: https://www.we-online.com/redexpert/article/9774030592RX?ad; ComponentLink2Description: Datasheet Link; ComponentLink2URL: https://www.we-online.com/redexpert/spec/9774030592RX?ad; Category: SMT Spacers; Match Code: WA-SMSI; Mount: Surface Mount; Operating Temperature Max: 150°C; Operating Temperature Min: -55°C; Packaging: Tape and Reel; Height: 3mm; Material: Steel; Outside Diameter: 9.2mm; Thread Size: M5
footprint 9774030592
pins: 1

## 9774030633
designator MP?, comment M1.6 x 3mm  (value not drawn)
WA-SMSI SMT Steel Spacer with internal Thread, OD 3.3mm, M1.6 x 3mm; Manufacturer Part Number: 9774030633; Manufacturer: Wurth Elektronik; Inside Diameter: 1.9mm; Surface: Tin; ComponentLink1Description: Website Link; ComponentLink1URL: https://www.we-online.com/redexpert/article/9774030633?ad; ComponentLink2Description: Datasheet Link; ComponentLink2URL: https://www.we-online.com/redexpert/spec/9774030633?ad; Category: SMT Spacers; Match Code: WA-SMSI; Mount: Surface Mount; Operating Temperature Max: 150°C; Operating Temperature Min: -55°C; Packaging: Bulk; Height: 3mm; Material: Steel; Outside Diameter: 3.3mm; Thread Size: M1.6
footprint 9774030633
pins: 1

## 9774030633R
designator MP?, comment M1.6 x 3mm  (value not drawn)
WA-SMSI SMT Steel Spacer with internal Thread, OD 3.3mm, M1.6 x 3mm; Manufacturer Part Number: 9774030633R; Manufacturer: Wurth Elektronik; Inside Diameter: 1.9mm; Surface: Tin; ComponentLink1Description: Website Link; ComponentLink1URL: https://www.we-online.com/redexpert/article/9774030633R?ad; ComponentLink2Description: Datasheet Link; ComponentLink2URL: https://www.we-online.com/redexpert/spec/9774030633R?ad; Category: SMT Spacers; Match Code: WA-SMSI; Mount: Surface Mount; Operating Temperature Max: 150°C; Operating Temperature Min: -55°C; Packaging: Tape and Reel; Height: 3mm; Material: Steel; Outside Diameter: 3.3mm; Thread Size: M1.6
footprint 9774030633
pins: 1

## 9774035151
designator MP?, comment M2.5 x 3.5mm  (value not drawn)
WA-SMSI SMT Steel Spacer with internal Thread, OD 5.1mm, M2.5 x 3.5mm; Manufacturer Part Number: 9774035151; Manufacturer: Wurth Elektronik; Surface: Tin; ComponentLink1Description: Website Link; ComponentLink1URL: https://www.we-online.com/redexpert/article/9774035151?ad; ComponentLink2Description: Datasheet Link; ComponentLink2URL: https://www.we-online.com/redexpert/spec/9774035151?ad; Category: SMT Spacers; Match Code: WA-SMSI; Mount: Surface Mount; Operating Temperature Max: 150°C; Operating Temperature Min: -55°C; Packaging: Bulk; Height: 3.5mm; Inside Diameter: 3.5mm; Material: Steel; Outside Diameter: 5.1mm; Thread Size: M2.5
footprint 9774035151
pins: 1

## 9774035151R
designator MP?, comment M2.5 x 3.5mm  (value not drawn)
WA-SMSI SMT Steel Spacer with internal Thread, OD 5.1mm, M2.5 x 3.5mm; Manufacturer Part Number: 9774035151R; Manufacturer: Wurth Elektronik; Surface: Tin; ComponentLink1Description: Website Link; ComponentLink1URL: https://www.we-online.com/redexpert/article/9774035151R?ad; ComponentLink2Description: Datasheet Link; ComponentLink2URL: https://www.we-online.com/redexpert/spec/9774035151R?ad; Category: SMT Spacers; Match Code: WA-SMSI; Mount: Surface Mount; Operating Temperature Max: 150°C; Operating Temperature Min: -55°C; Packaging: Tape and Reel; Height: 3.5mm; Inside Diameter: 3.5mm; Material: Steel; Outside Diameter: 5.1mm; Thread Size: M2.5
footprint 9774035151
pins: 1

## 9774035243
designator MP?, comment M2 x 3.5mm  (value not drawn)
WA-SMSI SMT Steel Spacer with internal Thread, OD 4.35mm, M2 x 3.5mm; Manufacturer Part Number: 9774035243; Manufacturer: Wurth Elektronik; Inside Diameter: 2.8mm; Surface: Tin; ComponentLink1Description: Website Link; ComponentLink1URL: https://www.we-online.com/redexpert/article/9774035243?ad; ComponentLink2Description: Datasheet Link; ComponentLink2URL: https://www.we-online.com/redexpert/spec/9774035243?ad; Category: SMT Spacers; Match Code: WA-SMSI; Mount: Surface Mount; Operating Temperature Max: 150°C; Operating Temperature Min: -55°C; Packaging: Bulk; Height: 3.5mm; Material: Steel; Outside Diameter: 4.35mm; Thread Size: M2
footprint 9774035243
pins: 1

## 9774035243R
designator MP?, comment M2 x 3.5mm  (value not drawn)
WA-SMSI SMT Steel Spacer with internal Thread, OD 4.35mm, M2 x 3.5mm; Manufacturer Part Number: 9774035243R; Manufacturer: Wurth Elektronik; Inside Diameter: 2.8mm; Surface: Tin; ComponentLink1Description: Website Link; ComponentLink1URL: https://www.we-online.com/redexpert/article/9774035243R?ad; ComponentLink2Description: Datasheet Link; ComponentLink2URL: https://www.we-online.com/redexpert/spec/9774035243R?ad; Category: SMT Spacers; Match Code: WA-SMSI; Mount: Surface Mount; Operating Temperature Max: 150°C; Operating Temperature Min: -55°C; Packaging: Tape and Reel; Height: 3.5mm; Material: Steel; Outside Diameter: 4.35mm; Thread Size: M2
footprint 9774035243
pins: 1

## 9774040151
designator MP?, comment M2.5 x 4mm  (value not drawn)
WA-SMSI SMT Steel Spacer with internal Thread, OD 5.1mm, M2.5 x 4mm; Manufacturer Part Number: 9774040151; Manufacturer: Wurth Elektronik; Inside Diameter: 3.5mm; Surface: Tin; ComponentLink1Description: Website Link; ComponentLink1URL: https://www.we-online.com/redexpert/article/9774040151?ad; ComponentLink2Description: Datasheet Link; ComponentLink2URL: https://www.we-online.com/redexpert/spec/9774040151?ad; Category: SMT Spacers; Match Code: WA-SMSI; Mount: Surface Mount; Operating Temperature Max: 150°C; Operating Temperature Min: -55°C; Packaging: Bulk; Height: 4mm; Material: Steel; Outside Diameter: 5.1mm; Thread Size: M2.5
footprint 9774040151
pins: 1

## 9774040151R
designator MP?, comment M2.5 x 4mm  (value not drawn)
WA-SMSI SMT Steel Spacer with internal Thread, OD 5.1mm, M2.5 x 4mm; Manufacturer Part Number: 9774040151R; Manufacturer: Wurth Elektronik; Inside Diameter: 3.5mm; Surface: Tin; ComponentLink1Description: Website Link; ComponentLink1URL: https://www.we-online.com/redexpert/article/9774040151R?ad; ComponentLink2Description: Datasheet Link; ComponentLink2URL: https://www.we-online.com/redexpert/spec/9774040151R?ad; Category: SMT Spacers; Match Code: WA-SMSI; Mount: Surface Mount; Operating Temperature Max: 150°C; Operating Temperature Min: -55°C; Packaging: Tape and Reel; Height: 4mm; Material: Steel; Outside Diameter: 5.1mm; Thread Size: M2.5
footprint 9774040151
pins: 1

## 9774040243
designator MP?, comment M2 x 4mm  (value not drawn)
WA-SMSI SMT Steel Spacer with internal Thread, OD 4.35mm, M2 x 4mm; Manufacturer Part Number: 9774040243; Manufacturer: Wurth Elektronik; Inside Diameter: 2.8mm; Surface: Tin; ComponentLink1Description: Website Link; ComponentLink1URL: https://www.we-online.com/redexpert/article/9774040243?ad; ComponentLink2Description: Datasheet Link; ComponentLink2URL: https://www.we-online.com/redexpert/spec/9774040243?ad; Category: SMT Spacers; Match Code: WA-SMSI; Mount: Surface Mount; Operating Temperature Max: 150°C; Operating Temperature Min: -55°C; Packaging: Bulk; Height: 4mm; Material: Steel; Outside Diameter: 4.35mm; Thread Size: M2
footprint 9774040243
pins: 1

## 9774040243R
designator MP?, comment M2 x 4mm  (value not drawn)
WA-SMSI SMT Steel Spacer with internal Thread, OD 4.35mm, M2 x 4mm; Manufacturer Part Number: 9774040243R; Manufacturer: Wurth Elektronik; Inside Diameter: 2.8mm; Surface: Tin; ComponentLink1Description: Website Link; ComponentLink1URL: https://www.we-online.com/redexpert/article/9774040243R?ad; ComponentLink2Description: Datasheet Link; ComponentLink2URL: https://www.we-online.com/redexpert/spec/9774040243R?ad; Category: SMT Spacers; Match Code: WA-SMSI; Mount: Surface Mount; Operating Temperature Max: 150°C; Operating Temperature Min: -55°C; Packaging: Tape and Reel; Height: 4mm; Material: Steel; Outside Diameter: 4.35mm; Thread Size: M2
footprint 9774040243
pins: 1